# Altium footprint library Resistors.PcbLib: 21 footprints (part 2 of 2)
Each footprint in its own frame and in the unit in brackets; x right, y up, seen from the top. Pads: shape width x height; smd on the part's side, far side on the other; paste and mask are expansions set on the pad; w line width, h text height; cw(c..) or ccw(c..) is an arc to the next point about the centre after c.
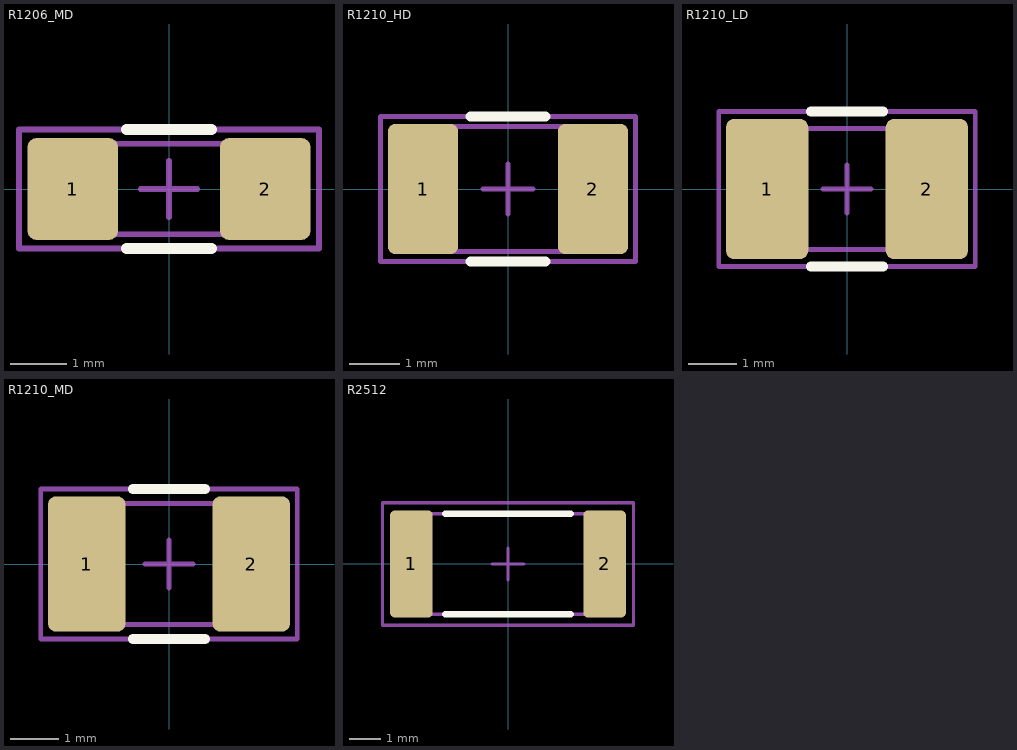
[diagram p1: the footprints below, top view; thin cyan lines are the x and y axes]

## R1206_MD [mm] "Chip Resistor, 2-Leads, Body 3.2x1.6mm, IPC Medium Density"
pads (2):
  rrect20% 1.6x1.8 smd: 1(-1.7,0) 2(1.7,0)
Top Overlay:
  lines w0.2: -0.75,-1.05 0.75,-1.05 ; -0.75,1.05 0.75,1.05
Mechanical 1:
  lines w0.1: -1.6,-0.8 -1.6,0.8 1.6,0.8 1.6,-0.8 -1.6,-0.8
Mechanical 15:
  lines w0.1: -0.5,0 0.5,0 ; 0,-0.5 0,0.5 ; -2.65,-1.05 -2.65,1.05 2.65,1.05 2.65,-1.05 -2.65,-1.05
3D body "R_1206_3216Metric.step": height 0.55, standoff 0, extent -1.6,-0.8 1.6,0.8

## R1210_HD [mm] "Chip Resistor, 2-Leads, Body 3.2x2.6mm, IPC High Density"
pads (2):
  rrect20% 1.4x2.6 smd: 1(-1.7,0) 2(1.7,0)
Top Overlay:
  lines w0.2: -0.75,-1.45 0.75,-1.45 ; -0.75,1.45 0.75,1.45
Mechanical 1:
  lines w0.1: -1.6,-1.25 -1.6,1.25 1.6,1.25 1.6,-1.25 -1.6,-1.25
Mechanical 15:
  lines w0.1: -0.5,0 0.5,0 ; 0,-0.5 0,0.5 ; -2.55,-1.45 2.55,-1.45 2.55,1.45 -2.55,1.45 -2.55,-1.45
3D body "R_1210_3225Metric.step": height 0.55, standoff 0, extent -1.6,-1.25 1.6,1.25

## R1210_LD [mm] "Chip Resistor, 2-Leads, Body 3.2x2.6mm, IPC Low Density"
pads (2):
  rrect20% 1.7x2.9 smd: 1(-1.65,0) 2(1.65,0)
Top Overlay:
  lines w0.2: -0.75,-1.6 0.75,-1.6 ; -0.75,1.6 0.75,1.6
Mechanical 1:
  lines w0.1: -1.6,-1.25 -1.6,1.25 1.6,1.25 1.6,-1.25 -1.6,-1.25
Mechanical 15:
  lines w0.1: -0.5,0 0.5,0 ; 0,-0.5 0,0.5 ; -2.65,-1.6 2.65,-1.6 2.65,1.6 -2.65,1.6 -2.65,-1.6
3D body "R_1210_3225Metric.step": height 0.55, standoff 0, extent -1.6,-1.25 1.6,1.25

## R1210_MD [mm] "Chip Resistor, 2-Leads, Body 3.2x2.6mm, IPC Medium Density"
pads (2):
  rrect20% 1.6x2.8 smd: 1(-1.7,0) 2(1.7,0)
Top Overlay:
  lines w0.2: -0.75,-1.55 0.75,-1.55 ; -0.75,1.55 0.75,1.55
Mechanical 1:
  lines w0.1: -1.6,-1.25 1.6,-1.25 1.6,1.25 -1.6,1.25 -1.6,-1.25
Mechanical 15:
  lines w0.1: -0.5,0 0.5,0 ; 0,-0.5 0,0.5 ; -2.65,-1.55 2.65,-1.55 2.65,1.55 -2.65,1.55 -2.65,-1.55
3D body "R_1210_3225Metric.step": height 0.55, standoff 0, extent -1.6,-1.25 1.6,1.25

## R2512 [mm]
height 0.8
pads (2):
  rrect20% 1.35x3.4 smd: 1(-3.075,0) 2(3.075,0)
Top Overlay:
  lines w0.2: -2,-1.6 2,-1.6 ; -2,1.6 2,1.6
Mechanical 1:
  lines w0.1: -3.15,-1.6 3.15,-1.6 3.15,1.6 -3.15,1.6 -3.15,-1.6
Mechanical 15:
  lines w0.1: -0.5,0 0.5,0 ; 0,-0.5 0,0.5 ; -4,-1.95 4,-1.95 4,1.95 -4,1.95 -4,-1.95
3D body "R_2512_6332Metric.step": height 0.6, standoff 0, extent -3.15,-1.6 3.15,1.6